# Altium footprint library SchLib1.PcbLib: 15 footprints
Each footprint in its own frame and in the unit in brackets; x right, y up, seen from the top. Pads: shape width x height; smd on the part's side, far side on the other; paste and mask are expansions set on the pad; w line width, h text height; cw(c..) or ccw(c..) is an arc to the next point about the centre after c.
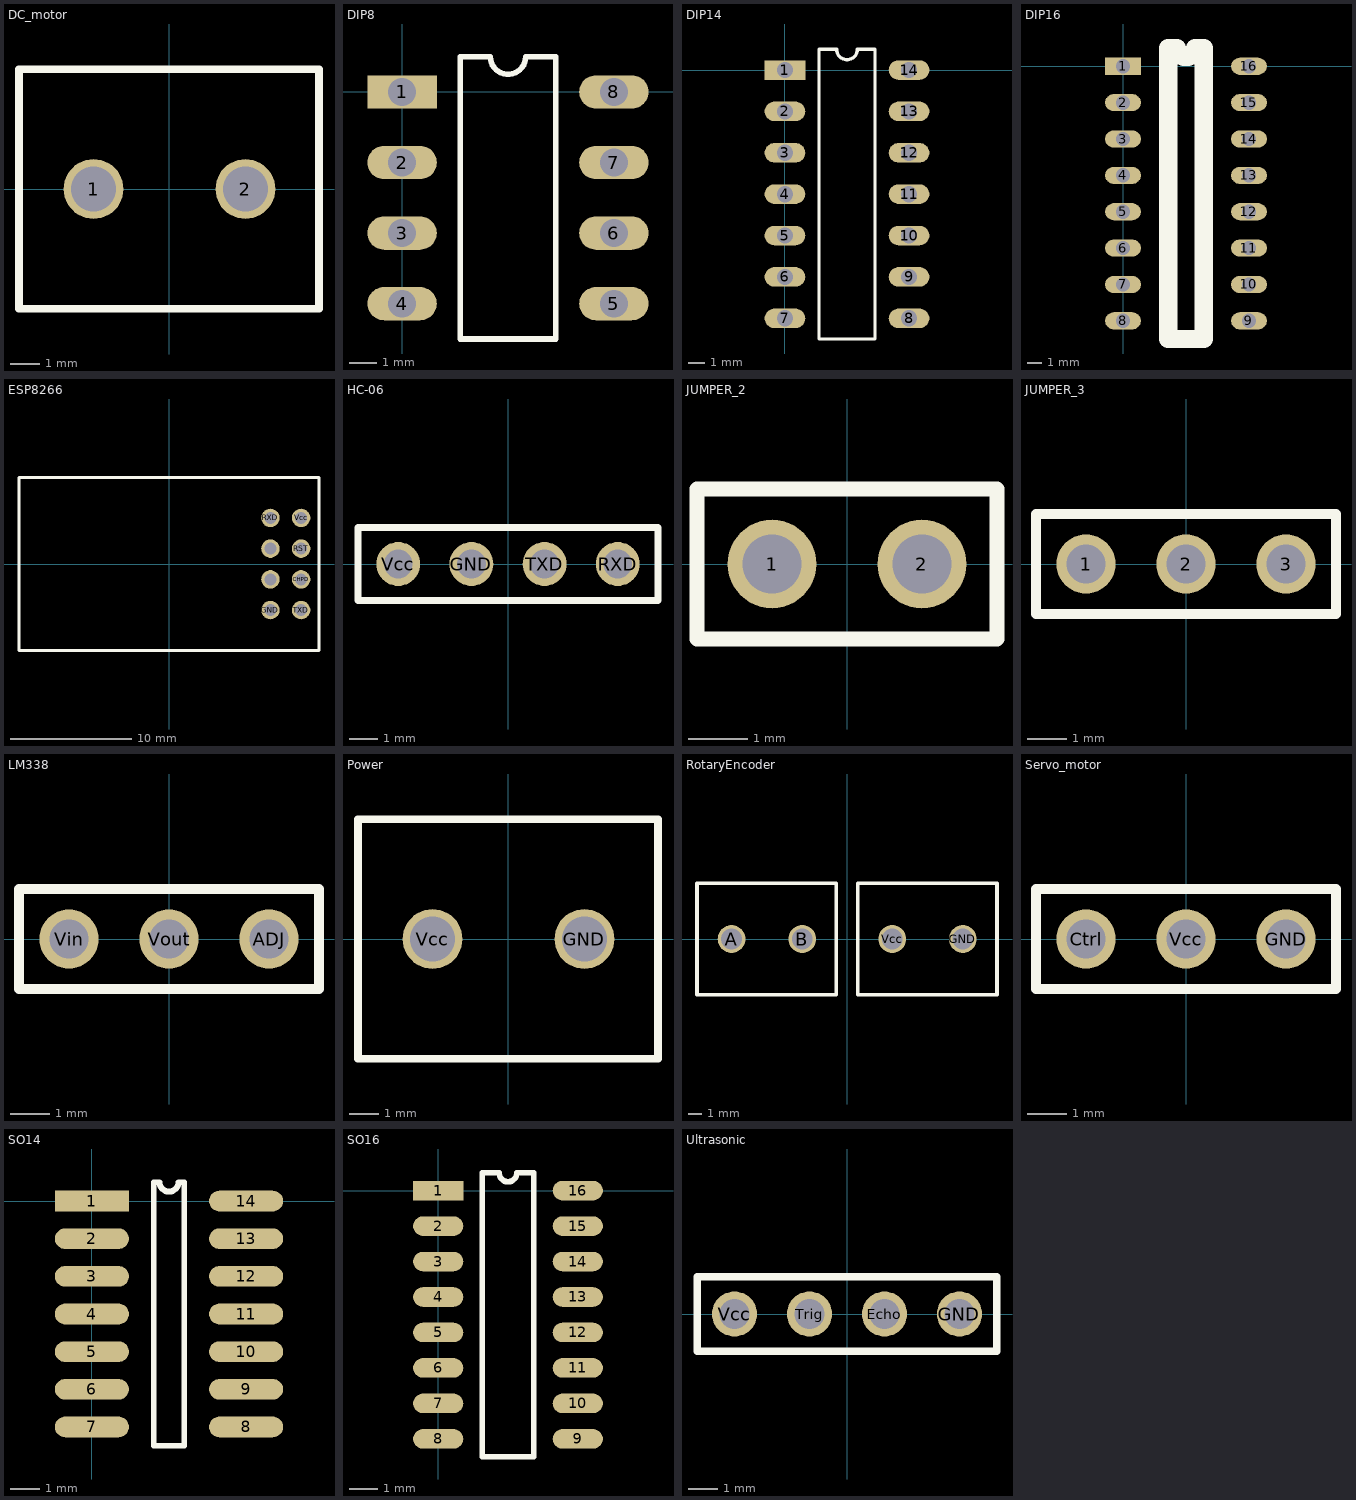
[diagram p0: the footprints below, top view; thin cyan lines are the x and y axes]

## DC_motor [mm]
pads (2):
  round 2 hole 1.5: 1(-2.54,0) 2(2.54,0)
Top Overlay:
  lines w0.254: -5.033,-4 -5.033,4 ; -5,-4 5,-4 5,4 ; 5,4 -5,4 5,4

## DIP8 [mm]
pads (8):
  rect 2.5x1.2 hole 1: 1(0,0)
  oval 2.5x1.2 hole 1: 2(0,-2.54) 3(0,-5.08) 4(0,-7.62) 5(7.62,-7.62) 6(7.62,-5.08) 7(7.62,-2.54) 8(7.62,0)
Top Overlay:
  lines w0.2: 2.085,-8.89 2.085,1.27 3.175,1.27 ccw(c3.81,1.27) 4.445,1.27 5.535,1.27 5.535,-8.89 2.085,-8.89

## DIP14 [mm]
pads (14):
  rect 2.5x1.2 hole 1: 1(0,0)
  oval 2.5x1.2 hole 1: 2(0,-2.54) 3(0,-5.08) 4(0,-7.62) 5(0,-10.16) 6(0,-12.7) 7(0,-15.24) 8(7.62,-15.24) 9(7.62,-12.7) 10(7.62,-10.16) 11(7.62,-7.62) 12(7.62,-5.08) 13(7.62,-2.54) 14(7.62,0)
Top Overlay:
  lines w0.2: 2.085,-16.51 2.085,1.27 3.175,1.27 ccw(c3.81,1.27) 4.445,1.27 5.535,1.27 5.535,-16.51 2.085,-16.51

## DIP16 [mm]
pads (16):
  rect 2.5x1.2 hole 1: 1(0,0)
  oval 2.5x1.2 hole 1: 2(0,-2.54) 3(0,-5.08) 4(0,-7.62) 5(0,-10.16) 6(0,-12.7) 7(0,-15.24) 8(0,-17.78) 9(8.8,-17.78) 10(8.8,-15.24) 11(8.8,-12.7) 12(8.8,-10.16) 13(8.8,-7.62) 14(8.8,-5.08) 15(8.8,-2.54) 16(8.8,0)
Top Overlay:
  lines w1.27: 3.155,-19.05 5.645,-19.05 5.645,1.27 5.035,1.27 cw(c4.4,1.27) 3.765,1.27 3.155,1.27 3.155,-19.05

## ESP8266 [mil]
pads (8):
  round 60 hole 39.37: CHPD(430,-50) GND(330,-150) GPIO0(330,50) GPIO2(330,-50) RST(430,50) RXD(330,150) TXD(430,-150) Vcc(430,150)
Top Overlay:
  lines w10: -488.19,-281.5 488.19,-281.5 488.19,281.5 -488.19,281.5 -488.19,-281.5

## HC-06 [mil]
pads (4):
  round 60 hole 39.37: GND(-50,0) RXD(150,0) TXD(50,0) Vcc(-150,0)
Top Overlay:
  lines w10: -205,-50 -205,50 205,50 205,-50 -205,-50

## JUMPER_2 [mm]
pads (2):
  round 1.5 hole 1: 1(-1.27,0) 2(1.27,0)
Top Overlay:
  lines w0.254: -2.54,-1.27 2.54,-1.27 2.54,1.27 -2.54,1.27 -2.54,-1.27

## JUMPER_3 [mm]
pads (3):
  round 1.5 hole 1: 1(-2.54,0) 2(0,0) 3(2.54,0)
Top Overlay:
  lines w0.254: -3.81,-1.27 3.81,-1.27 3.81,1.27 -3.81,1.27 -3.81,-1.27

## LM338 [mm] "LM338 Voltage regulator"
pads (3):
  round 1.5 hole 1: ADJ(2.54,0) Vin(-2.54,0) Vout(0,0)
Top Overlay:
  lines w0.254: -3.81,-1.27 3.81,-1.27 3.81,1.27 -3.81,1.27 -3.81,-1.27

## Power [mm]
pads (2):
  round 2 hole 1.5: GND(2.54,0) Vcc(-2.54,0)
Top Overlay:
  lines w0.254: -5.033,-4 -5.033,4 ; -5,-4 5,-4 5,4 ; 5,4 -5,4 5,4

## RotaryEncoder [mm]
pads (4):
  round 2 hole 1.5: A(-8.302,0) B(-3.222,0) GND(8.335,0) Vcc(3.255,0)
Top Overlay:
  lines w0.254: -10.795,-4 -10.795,4 -0.762,4 -0.762,-4 -10.762,-4 ; 0.762,-4 0.762,4 ; 0.795,-4 10.795,-4 10.795,4 ; 10.795,4 0.795,4 10.795,4

## Servo_motor [mm]
pads (3):
  round 1.5 hole 1: Ctrl(-2.54,0) GND(2.54,0) Vcc(0,0)
Top Overlay:
  lines w0.254: -3.81,-1.27 -3.81,1.27 3.81,1.27 3.81,-1.27 -3.81,-1.27

## SO14 [mm]
pads (14):
  rect 2.5x0.7 smd: 1(0,0)
  oval 2.5x0.7 smd: 2(0,-1.27) 3(0,-2.54) 4(0,-3.81) 5(0,-5.08) 6(0,-6.35) 7(0,-7.62) 8(5.2,-7.62) 9(5.2,-6.35) 10(5.2,-5.08) 11(5.2,-3.81) 12(5.2,-2.54) 13(5.2,-1.27) 14(5.2,0)
Top Overlay:
  lines w0.2: 2.085,-8.255 2.085,0.635 2.282,0.635 ccw(c2.6,0.635) 2.917,0.635 3.115,0.635 3.115,-8.255 2.085,-8.255

## SO16 [mm]
pads (16):
  rect 1.8x0.7 smd: 1(0,0)
  oval 1.8x0.7 smd: 2(0,-1.27) 3(0,-2.54) 4(0,-3.81) 5(0,-5.08) 6(0,-6.35) 7(0,-7.62) 8(0,-8.89) 9(5,-8.89) 10(5,-7.62) 11(5,-6.35) 12(5,-5.08) 13(5,-3.81) 14(5,-2.54) 15(5,-1.27) 16(5,0)
Top Overlay:
  lines w0.2: 1.585,-9.525 3.415,-9.525 3.415,0.635 2.818,0.635 cw(c2.5,0.635) 2.183,0.635 1.585,0.635 1.585,-9.525

## Ultrasonic [mil]
pads (4):
  round 60 hole 39.37: Echo(50,0) GND(150,0) Trig(-50,0) Vcc(-150,0)
Top Overlay:
  lines w10: -200,-50 -200,50 200,50 200,-50 -200,-50